# EAGLE library part MAX4313 (library MicroBoard)
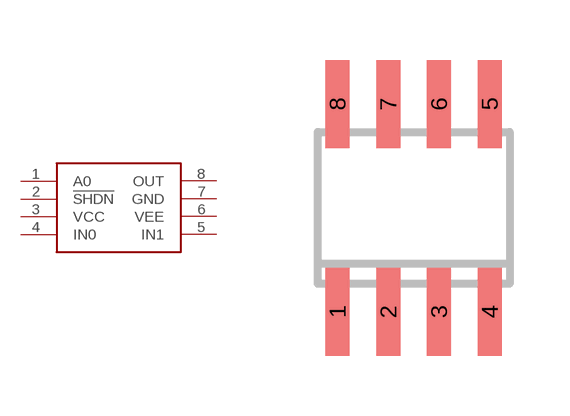
[diagram p6: symbol with the pads of SO8; footprint SO8]

Designator prefix -

## MAX4313  [SO8]
1  A0
2  !SHDN
3  VCC
4  IN0
5  IN1
6  VEE
7  GND
8  OUT

## Footprint SO8 (pad centres in mm)
SMALL OUTLINE INTEGRATED CIRCUIT
smd 0.6 x 2.2: 1 -1.905,-2.6; 2 -0.635,-2.6; 3 0.635,-2.6; 4 1.905,-2.6; 5 1.905,2.6; 6 0.635,2.6; 7 -0.635,2.6; 8 -1.905,2.6